# Altium schematic symbol library Quectel.SchLib: 2 symbols
Pins are listed as number, name and electrical type; pins without a type are passive.

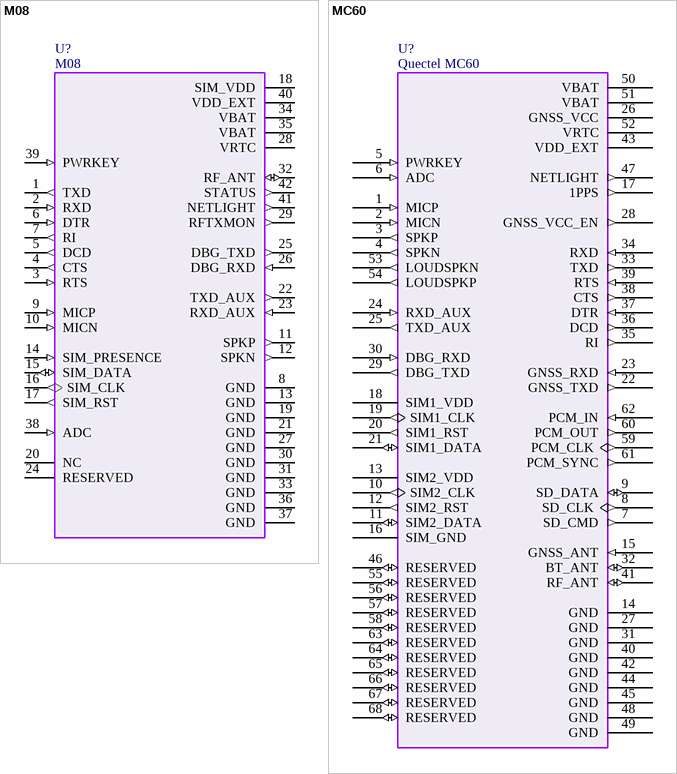
[diagram p0: symbols M08 to MC60]

## M08
designator U?
footprint QUECTEL M08
pins: 1 TXD (out), 2 RXD (in), 3 RTS (in), 4 CTS (out), 5 DCD (out), 6 DTR (in), 7 RI (out), 8 GND (power), 9 MICP (in), 10 MICN (in), 11 SPKP (out), 12 SPKN (out), 13 GND (power), 14 SIM_PRESENCE (in), 15 SIM_DATA (io), 16 SIM_CLK (out), 17 SIM_RST (out), 18 SIM_VDD (power), 19 GND (power), 20 NC, 21 GND (power), 22 TXD_AUX (out), 23 RXD_AUX (in), 24 RESERVED, 25 DBG_TXD (out), 26 DBG_RXD (in), 27 GND (power), 28 VRTC (power), 29 RFTXMON (out), 30 GND (power), 31 GND (power), 32 RF_ANT (io), 33 GND (power), 34 VBAT (power), 35 VBAT (power), 36 GND (power), 37 GND (power), 38 ADC (in), 39 PWRKEY (in), 40 VDD_EXT (power), 41 NETLIGHT (out), 42 STATUS (out)

## MC60
designator U?, comment Quectel MC60
Ultra-small LCC Quad-band GSM/GPRS/GNSS Module
footprint Quectel MC60
pins: 1 MICP (in), 2 MICN (in), 3 SPKP (out), 4 SPKN (out), 5 PWRKEY (in), 6 ADC (in), 7 SD_CMD (out), 8 SD_CLK (out), 9 SD_DATA (io), 10 SIM2_CLK (out), 11 SIM2_DATA (io), 12 SIM2_RST (out), 13 SIM2_VDD (power), 14 GND (power), 15 GNSS_ANT (in), 16 SIM_GND (power), 17 1PPS (out), 18 SIM1_VDD (power), 19 SIM1_CLK (out), 20 SIM1_RST (out), 21 SIM1_DATA (io), 22 GNSS_TXD (out), 23 GNSS_RXD (in), 24 RXD_AUX (in), 25 TXD_AUX (out), 26 GNSS_VCC (power), 27 GND (power), 28 GNSS_VCC_EN (out), 29 DBG_TXD (out), 30 DBG_RXD (in), 31 GND (power), 32 BT_ANT (io), 33 TXD (out), 34 RXD (in), 35 RI (out), 36 DCD (out), 37 DTR (in), 38 CTS (out), 39 RTS (in), 40 GND (power), 41 RF_ANT (io), 42 GND (power), 43 VDD_EXT (power), 44 GND (power), 45 GND (power), 46 RESERVED (io), 47 NETLIGHT (out), 48 GND (power), 49 GND (power), 50 VBAT (power), 51 VBAT (power), 52 VRTC (power), 53 LOUDSPKN (out), 54 LOUDSPKP (out), 55 RESERVED (io), 56 RESERVED (io), 57 RESERVED (io), 58 RESERVED (io), 59 PCM_CLK (out), 60 PCM_OUT (out), 61 PCM_SYNC (out), 62 PCM_IN (in), 63 RESERVED (io), 64 RESERVED (io), 65 RESERVED (io), 66 RESERVED (io), 67 RESERVED (io), 68 RESERVED (io)